# Altium footprint library SO.PcbLib: 2 footprints
Each footprint in its own frame and in the unit in brackets; x right, y up, seen from the top. Pads: shape width x height; smd on the part's side, far side on the other; paste and mask are expansions set on the pad; w line width, h text height; cw(c..) or ccw(c..) is an arc to the next point about the centre after c.
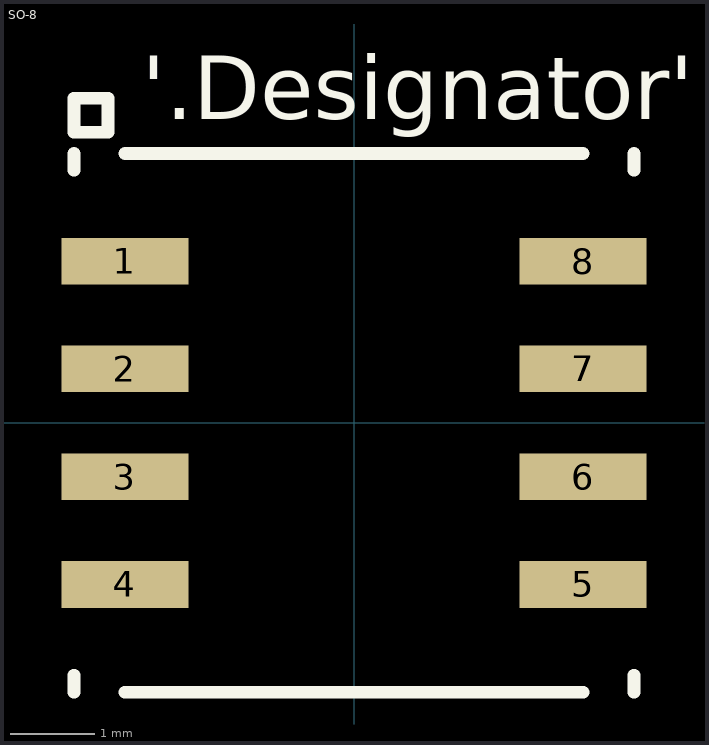
[diagram p0: the footprints below, top view; thin cyan lines are the x and y axes]

## SO-8 [mm]
pads (8):
  rect 1.5x0.55 smd: 1(-2.7,1.905) 2(-2.7,0.635) 3(-2.7,-0.635) 4(-2.7,-1.905) 5(2.7,-1.905) 6(2.7,-0.635) 7(2.7,0.635) 8(2.7,1.905)
Top Overlay:
  lines w0.15: -3.3,-3.175 -3.3,-2.975 ; -3.3,2.975 -3.3,3.175 ; -2.7,-3.175 2.7,-3.175 ; -2.7,3.175 2.7,3.175 ; 3.3,-3.175 3.3,-2.975 ; 3.3,2.975 3.3,3.175 ; -3.3,3.425 -2.9,3.425 -2.9,3.825 -3.3,3.825 -3.3,3.425
  text "'.Designator'" at -2.5,3.575 h0.75

## SO-16 [mm]